# EAGLE library part ULN2803 (library uln2803)
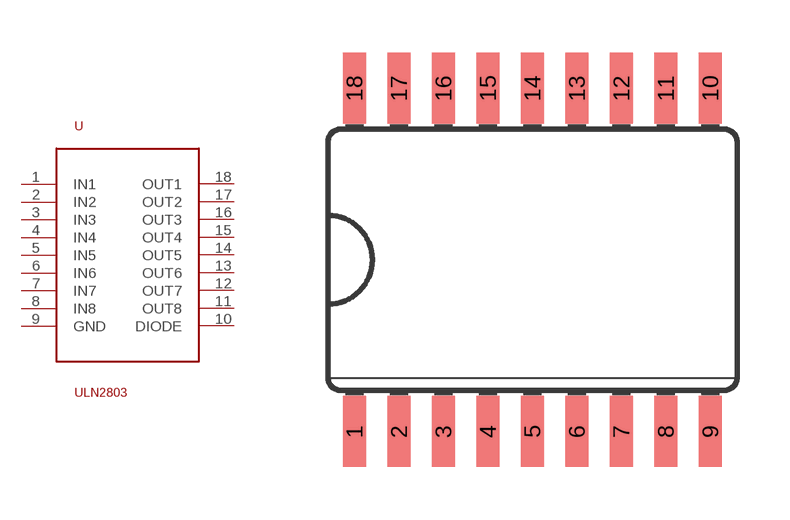
[diagram p0: symbol with the pads of SO18L; footprint SO18L]

Designator prefix -

## ULN2803  [SO18L]
1  IN1  in
2  IN2  in
3  IN3  in
4  IN4  in
5  IN5  in
6  IN6  in
7  IN7  in
8  IN8  in
9  GND  sup
10  DIODE  sup
11  OUT8  oc
12  OUT7  oc
13  OUT6  oc
14  OUT5  oc
15  OUT4  oc
16  OUT3  oc
17  OUT2  oc
18  OUT1  oc

## Footprint SO18L (pad centres in mm)
Small Outline Package
smd 0.66 x 2.032: 1 -5.08,-4.902; 2 -3.81,-4.902; 3 -2.54,-4.902; 4 -1.27,-4.902; 5 0,-4.902; 6 1.27,-4.902; 7 2.54,-4.902; 8 3.81,-4.902; 9 5.08,-4.902; 10 5.08,4.902; 11 3.81,4.902; 12 2.54,4.902; 13 1.27,4.902; 14 0,4.902; 15 -1.27,4.902; 16 -2.54,4.902; 17 -3.81,4.902; 18 -5.08,4.902